# EAGLE library part 28*17A (library lade-controller)
CMOS EEPROM 16 K (2 K x 8)
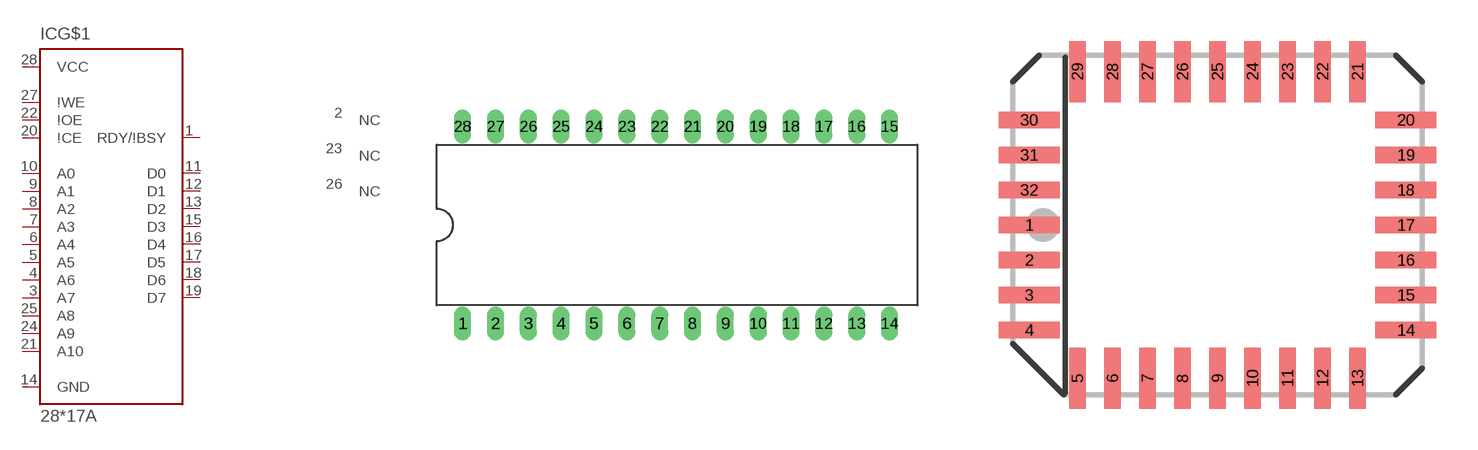
[diagram p36: symbol with the pads of DIL28-6; footprints DIL28-6, PLCC-32]

Designator prefix IC; gates G$1=28C17 2=NC 23=NC 26=NC

## 28C17AP  [DIL28-6]
1  G$1:RDY/\!BSY  out
2  2:NC  nc
3  G$1:A7  in
4  G$1:A6  in
5  G$1:A5  in
6  G$1:A4  in
7  G$1:A3  in
8  G$1:A2  in
9  G$1:A1  in
10  G$1:A0  in
11  G$1:D0  hiz
12  G$1:D1  hiz
13  G$1:D2  hiz
14  G$1:GND  pwr
15  G$1:D3  hiz
16  G$1:D4  hiz
17  G$1:D5  hiz
18  G$1:D6  hiz
19  G$1:D7  hiz
20  G$1:\!CE  in
21  G$1:A10  in
22  G$1:\!OE  in
23  23:NC  nc
24  G$1:A9  in
25  G$1:A8  in
26  26:NC  nc
27  G$1:\!WE  in
28  G$1:VCC  pwr

## 28C17AL  [PLCC-32]
1  2:NC  nc
2  G$1:RDY/\!BSY  out
3  23:NC  nc
4  G$1:A7  in
5  G$1:A6  in
6  G$1:A5  in
7  G$1:A4  in
8  G$1:A3  in
9  G$1:A2  in
10  G$1:A1  in
11  G$1:A0  in
12  26:NC  nc
13  G$1:D0  hiz
14  G$1:D1  hiz
15  G$1:D2  hiz
16  G$1:GND  pwr
18  G$1:D3  hiz
19  G$1:D4  hiz
20  G$1:D5  hiz
21  G$1:D6  hiz
22  G$1:D7  hiz
23  G$1:\!CE  in
24  G$1:A10  in
25  G$1:\!OE  in
28  G$1:A9  in
29  G$1:A8  in
31  G$1:\!WE  in
32  G$1:VCC  pwr

## 28C17AVS  [VSOP28-8X13]
Pads as for DIL28-6

## 28C17ATS  [TSOP28]
1  G$1:\!OE  in
2  2:NC  nc
3  G$1:A9  in
4  G$1:A8  in
5  23:NC  nc
6  G$1:\!WE  in
7  G$1:VCC  pwr
8  G$1:RDY/\!BSY  out
9  26:NC  nc
10  G$1:A7  in
11  G$1:A6  in
12  G$1:A5  in
13  G$1:A4  in
14  G$1:A3  in
15  G$1:A2  in
16  G$1:A1  in
17  G$1:A0  in
18  G$1:D0  hiz
19  G$1:D1  hiz
20  G$1:D2  hiz
21  G$1:GND  pwr
22  G$1:D3  hiz
23  G$1:D4  hiz
24  G$1:D5  hiz
25  G$1:D6  hiz
26  G$1:D7  hiz
27  G$1:\!CE  in
28  G$1:A10  in

## 28C17ASO  [SO28W]
Pads as for DIL28-6

## Footprint DIL28-6 (pad centres in mm)
Dual In Line package type P
drill 0.813 long: 1 -16.51,-7.62; 2 -13.97,-7.62; 3 -11.43,-7.62; 4 -8.89,-7.62; 5 -6.35,-7.62; 6 -3.81,-7.62; 7 -1.27,-7.62; 8 1.27,-7.62; 9 3.81,-7.62; 10 6.35,-7.62; 11 8.89,-7.62; 12 11.43,-7.62; 13 13.97,-7.62; 14 16.51,-7.62; 15 16.51,7.62; 16 13.97,7.62; 17 11.43,7.62; 18 8.89,7.62; 19 6.35,7.62; 20 3.81,7.62; 21 1.27,7.62; 22 -1.27,7.62; 23 -3.81,7.62; 24 -6.35,7.62; 25 -8.89,7.62; 26 -11.43,7.62; 27 -13.97,7.62; 28 -16.51,7.62

## Footprint PLCC-32 (pad centres in mm)
PLASTIC LEADED CHIP CARRIER rectangle, package type L
smd 2.2 x 0.6: 1 -6.83,0; 2 -6.83,-1.27; 3 -6.83,-2.54; 4 -6.83,-3.81; 14 6.83,-3.81; 15 6.83,-2.54; 16 6.83,-1.27; 17 6.83,0; 18 6.83,1.27; 19 6.83,2.54; 20 6.83,3.81; 30 -6.83,3.81; 31 -6.83,2.54; 32 -6.83,1.27
smd 0.6 x 2.2: 5 -5.08,-5.56; 6 -3.81,-5.56; 7 -2.54,-5.56; 8 -1.27,-5.56; 9 0,-5.56; 10 1.27,-5.56; 11 2.54,-5.56; 12 3.81,-5.56; 13 5.08,-5.56; 21 5.08,5.56; 22 3.81,5.56; 23 2.54,5.56; 24 1.27,5.56; 25 0,5.56; 26 -1.27,5.56; 27 -2.54,5.56; 28 -3.81,5.56; 29 -5.08,5.56

## Footprint VSOP28-8X13 (pad centres in mm)
Very Small Outline Package 8 x 13.4 mm, package type VS
smd 0.3 x 1.1: 1 0.275,-6.45; 2 0.825,-6.45; 3 1.375,-6.45; 4 1.925,-6.45; 5 2.475,-6.45; 6 3.025,-6.45; 7 3.575,-6.45; 8 3.575,6.45; 9 3.025,6.45; 10 2.475,6.45; 11 1.925,6.45; 12 1.375,6.45; 13 0.825,6.45; 14 0.275,6.45; 15 -0.275,6.45; 16 -0.825,6.45; 17 -1.375,6.45; 18 -1.925,6.45; 19 -2.475,6.45; 20 -3.025,6.45; 21 -3.575,6.45; 22 -3.575,-6.45; 23 -3.025,-6.45; 24 -2.475,-6.45; 25 -1.925,-6.45; 26 -1.375,-6.45; 27 -0.825,-6.45; 28 -0.275,-6.45

## Footprint TSOP28 (pad centres in mm)
Thin Small Outline Package Gull Wing type I, package type TS
smd 0.3 x 1: 1 -3.75,-9.7; 2 -3.25,-9.7; 3 -2.75,-9.7; 4 -2.25,-9.7; 5 -1.75,-9.7; 6 -1.25,-9.7; 7 -0.75,-9.7; 8 0.75,-9.7; 9 1.25,-9.7; 10 1.75,-9.7; 11 2.25,-9.7; 12 2.75,-9.7; 13 3.25,-9.7; 14 3.75,-9.7; 15 3.75,9.7; 16 3.25,9.7; 17 2.75,9.7; 18 2.25,9.7; 19 1.75,9.7; 20 1.25,9.7; 21 0.75,9.7; 22 -0.75,9.7; 23 -1.25,9.7; 24 -1.75,9.7; 25 -2.25,9.7; 26 -2.75,9.7; 27 -3.25,9.7; 28 -3.75,9.7

## Footprint SO28W (pad centres in mm)
28-Lead Plastic Small Outline (SO) Wide, 300 mil Body (SOIC) Source: http://ww1.microchip.com/downloads/en/devicedoc/39632c.pdf
smd 0.65 x 1.7: 1 -7.62,-4.78; 2 -6.35,-4.78; 3 -5.08,-4.78; 4 -3.81,-4.78; 5 -2.54,-4.78; 6 -1.27,-4.78; 7 0,-4.78; 8 1.27,-4.78; 9 2.54,-4.78; 10 3.81,-4.78; 11 5.08,-4.78; 12 6.35,-4.78; 13 7.62,-4.78; 14 8.89,-4.78; 15 8.89,4.78; 16 7.62,4.78; 17 6.35,4.78; 18 5.08,4.78; 19 3.81,4.78; 20 2.54,4.78; 21 1.27,4.78; 22 0,4.78; 23 -1.27,4.78; 24 -2.54,4.78; 25 -3.81,4.78; 26 -5.08,4.78; 27 -6.35,4.78; 28 -7.62,4.78